# EAGLE library part 71S4- (library inductor-neosid)
FILTER adjustable filter transformer, type S
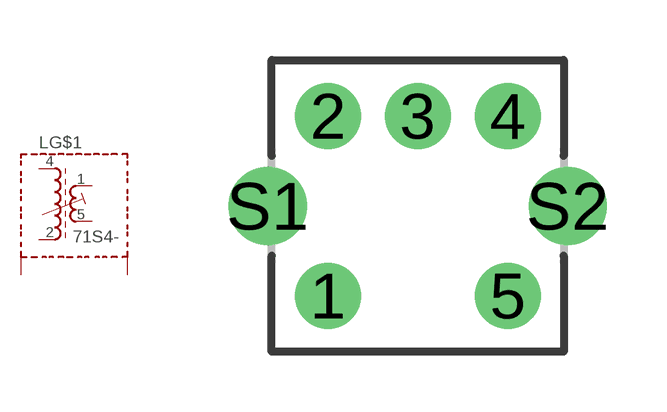
[diagram p11: symbol with the pads of 71S; footprint 71S]

Designator prefix L; gates G$1=SMF51-3 G$2=SHIELD3

## 71S4-4215 (OC_FARNELL: unknown; OC_NEWARK: unknown)  [71S]
1  G$1:A2  pas
2  G$1:E1  pas
4  G$1:A1  pas
5  G$1:E2  pas
S1  G$2:S1  pas
S2  G$2:S2  pas

## 71S4-1542 (OC_FARNELL: unknown; OC_NEWARK: unknown)  [71S]
1  G$1:A1  pas
2  G$1:A2  pas
4  G$1:E2  pas
5  G$1:E1  pas
S1  G$2:S1  pas
S2  G$2:S2  pas

## 71S4-2451 (OC_FARNELL: unknown; OC_NEWARK: unknown)  [71S]
1  G$1:E2  pas
2  G$1:A1  pas
4  G$1:E1  pas
5  G$1:A2  pas
S1  G$2:S1  pas
S2  G$2:S2  pas

## 71S4-4251 (OC_FARNELL: unknown; OC_NEWARK: unknown)  [71S]
1  G$1:E2  pas
2  G$1:E1  pas
4  G$1:A1  pas
5  G$1:A2  pas
S1  G$2:S1  pas
S2  G$2:S2  pas

## 71S4-2315 (OC_FARNELL: unknown; OC_NEWARK: unknown)  [71S]
1  G$1:A2  pas
2  G$1:A1  pas
3  G$1:E1  pas
5  G$1:E2  pas
S1  G$2:S1  pas
S2  G$2:S2  pas

## 71S4-5142 (OC_FARNELL: unknown; OC_NEWARK: unknown)  [71S]
1  G$1:E1  pas
2  G$1:E2  pas
4  G$1:A2  pas
5  G$1:A1  pas
S1  G$2:S1  pas
S2  G$2:S2  pas

## 71S4-5412 (OC_FARNELL: unknown; OC_NEWARK: unknown)  [71S]
1  G$1:A2  pas
2  G$1:E2  pas
4  G$1:E1  pas
5  G$1:A1  pas
S1  G$2:S1  pas
S2  G$2:S2  pas

## 71S4-1524 (OC_FARNELL: unknown; OC_NEWARK: unknown)  [71S]
Pads as for 71S

## 71S4-2143 (OC_FARNELL: unknown; OC_NEWARK: unknown)  [71S]
1  G$1:E1  pas
2  G$1:A1  pas
3  G$1:E2  pas
4  G$1:A2  pas
S1  G$2:S1  pas
S2  G$2:S2  pas

## 71S4-5123 (OC_FARNELL: unknown; OC_NEWARK: unknown)  [71S]
1  G$1:E1  pas
2  G$1:A2  pas
3  G$1:E2  pas
5  G$1:A1  pas
S1  G$2:S1  pas
S2  G$2:S2  pas

## 71S4-5241 (OC_FARNELL: unknown; OC_NEWARK: unknown)  [71S]
1  G$1:E2  pas
2  G$1:E1  pas
4  G$1:A2  pas
5  G$1:A1  pas
S1  G$2:S1  pas
S2  G$2:S2  pas

## 71S4-4512 (OC_FARNELL: unknown; OC_NEWARK: unknown)  [71S]
1  G$1:A2  pas
2  G$1:E2  pas
4  G$1:A1  pas
5  G$1:E1  pas
S1  G$2:S1  pas
S2  G$2:S2  pas

## 71S4-1532 (OC_FARNELL: unknown; OC_NEWARK: unknown)  [71S]
1  G$1:A1  pas
2  G$1:E2  pas
3  G$1:A2  pas
5  G$1:E1  pas
S1  G$2:S1  pas
S2  G$2:S2  pas

## 71S4-3254 (OC_FARNELL: unknown; OC_NEWARK: unknown)  [71S]
2  G$1:E1  pas
3  G$1:A1  pas
4  G$1:E2  pas
5  G$1:A2  pas
S1  G$2:S1  pas
S2  G$2:S2  pas

## 71S4-2415 (OC_FARNELL: unknown; OC_NEWARK: unknown)  [71S]
1  G$1:A2  pas
2  G$1:A1  pas
4  G$1:E1  pas
5  G$1:E2  pas
S1  G$2:S1  pas
S2  G$2:S2  pas

## Footprint 71S (pad centres in mm)
RF COIL ASSEMBLY 2 windings, 5 pads, grid 2.25 mm
drill 1.1 round: 1 -2.25,-2.25; 2 -2.25,2.25; 3 0,2.25; 4 2.25,2.25; 5 2.25,-2.25
drill 1.3 round: S1 -3.75,0; S2 3.75,0